# Altium footprint library SOT-143B.PcbLib: 1 footprints
Each footprint in its own frame and in the unit in brackets; x right, y up, seen from the top. Pads: shape width x height; smd on the part's side, far side on the other; paste and mask are expansions set on the pad; w line width, h text height; cw(c..) or ccw(c..) is an arc to the next point about the centre after c.
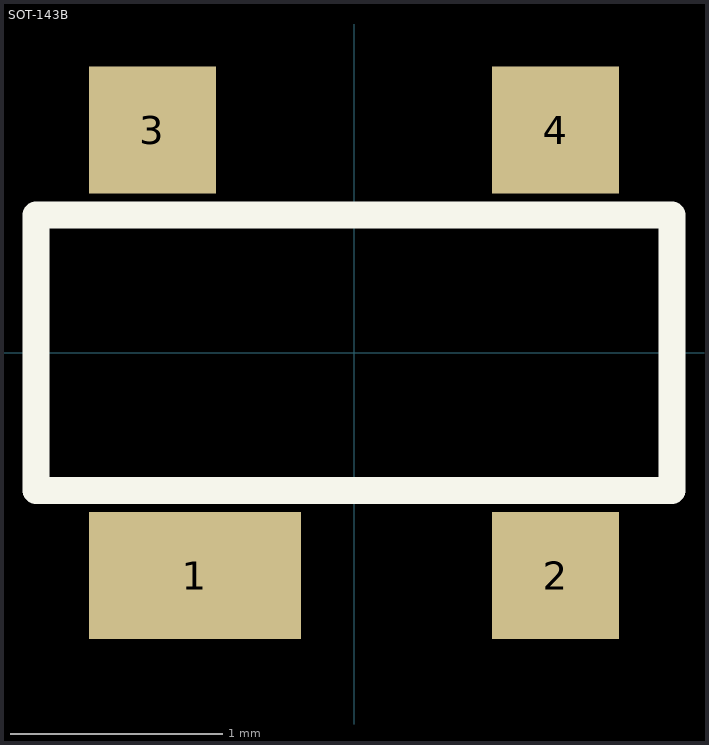
[diagram p0: the footprint, top view; thin cyan lines are the x and y axes]

## SOT-143B [mm]
pads (4):
  rect 1x0.6 smd: 1(-0.75,-1.05)
  rect 0.6x0.6 smd: 2(0.95,-1.05) 3(-0.95,1.05) 4(0.95,1.05)
Top Overlay:
  lines w0.127: -1.5,-0.65 -1.5,0.65 1.5,0.65 1.5,-0.65 -1.5,-0.65